# Altium integrated library CMEJ-0415-42-P.IntLib: 1 symbol
Pins are listed as number, name and electrical type; pins without a type are passive.

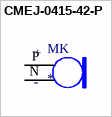
[diagram p0: symbol CMEJ-0415-42-P]

## CMEJ-0415-42-P
designator MK
4.0 мм, всенаправленный, монтаж на печатной плате, 2.0 В постоянного тока, Элекрет-конденсаторный микрофон; MF: CUI Devices; MP: CMEJ-0415-42-P
footprint MIC_CMEJ-0415-42-P
pins: N GND, P OUTPUT
text: +; -